# Altium schematic symbol library TIDA_00620.SchLib: 58 symbols (part 2 of 5)
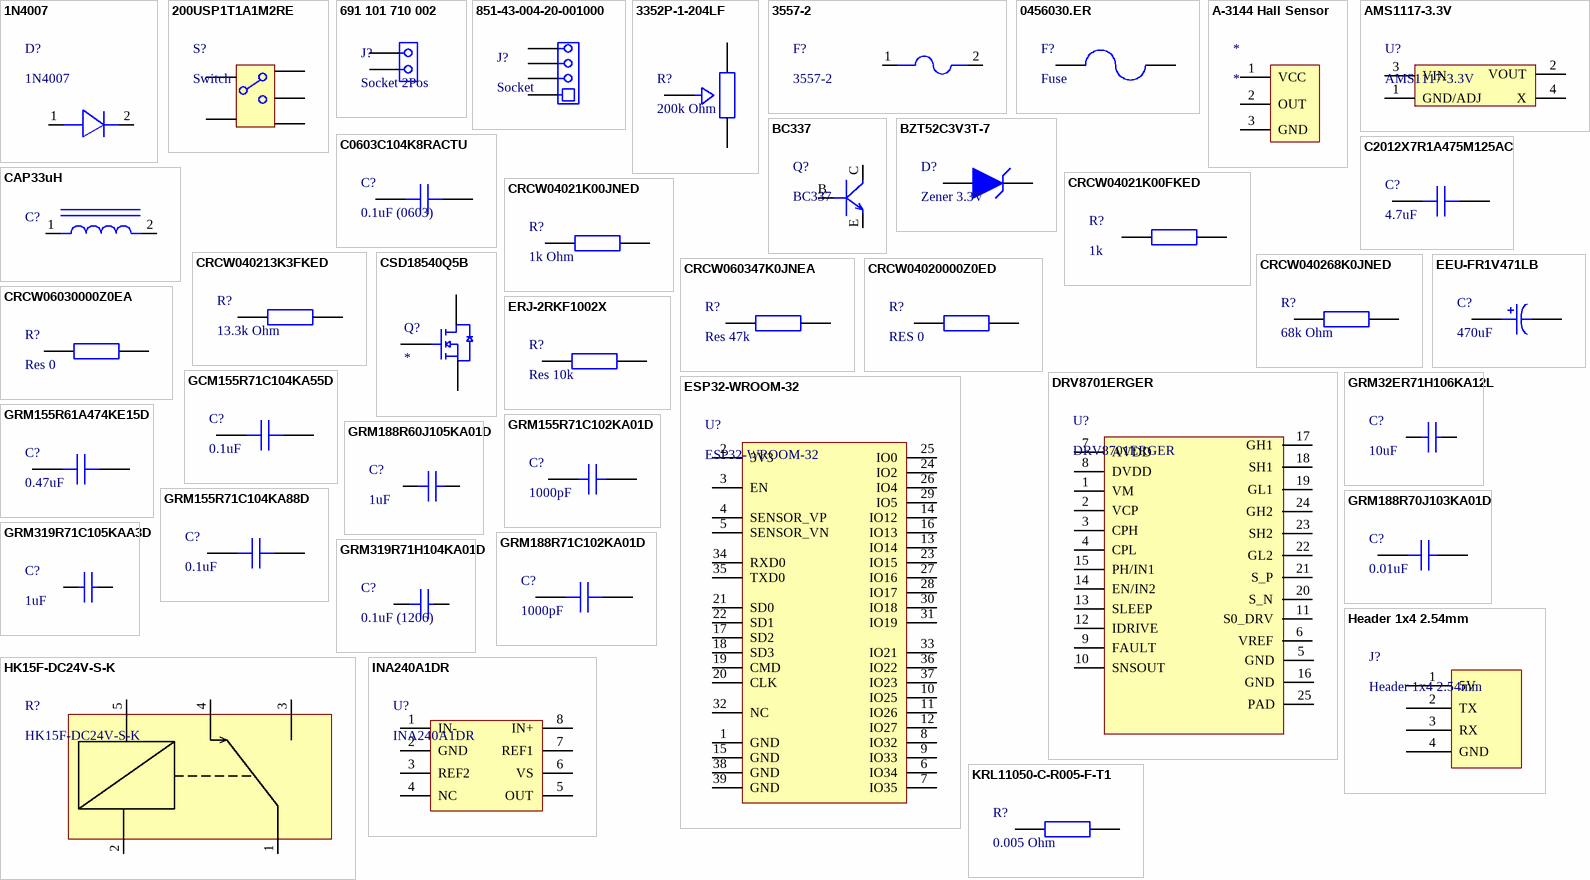
[diagram p2: symbols 1N4007 to KRL11050-C-R005-F-T1]

## C2012X7R1A475M125AC
designator C?, comment 4.7uF
10V 4.7uF X7R 卤20% 0805 Multilayer Ceramic Capacitors MLCC - SMD/SMT ROHS; Manufacturer: TDK; Manufacturer Part Number: C2012X7R1A475M125AC; Manufacturer Lifecycle Status: PRODUCTION (NOT RECOMMENDED FOR NEW DESIGN); Value: 4.7µF; Tolerance: 20%; Designed: Emre; Supplier: Future Electronics; Supplier Part Number: 7001868; RoHS: Compliant; Category: Ceramic Capacitors; Stock: 14000; Pricing: 2000=0,0339, 6000=0,0331, 10000=0,0327, 30000=0,0319, 50000=0,0312 (USD); Case/Package: 0805; Case Code (Imperial): 0805; Case Code (Metric): 2012; China RoHS: Compliant; Composition: Ceramic; Depth: 1.25mm; Dielectric: X7R; Dielectric Material: Ceramic; Height: 1.25mm; Lead Free: Lead Free; Length: 2mm; Lifecycle Status: NRND; Material: Ceramic; Max Length: 2.2mm; Max Operating Temperature: 125°C; Max Width: 1.45mm; Min Length: 1.8mm; Min Operating Temperature: -55°C; Min Width: 1.05mm; Mounting Technology: Surface Mount; Pins: 2; Number of Terminals: 2; Radiation Hardening: No; REACH SVHC: Yes; Schedule B: 8532240020, 8532240020|8532240020, 8532240020|8532240020|8532240020, 8532240020|8532240020|8532240020|8532240020; Termination: SMD/SMT; Voltage: 10V; Voltage Rating: 10V; Voltage Rating (DC): 10V; Weight: 5.499807mg; Width: 1.25mm; ComponentLink1URL: https://datasheet.octopart.com:443/C2012X7R1A475M125AC-TDK-datasheet-175423548.pdf?src-supplier=IHS; ComponentLink1Description: https://datasheet.octopart.com:443/C2012X7R1A475M125AC-TDK-datasheet-175423548.pdf?src-supplier=IHS; ComponentLink2URL: https://datasheet.octopart.com:443/C2012X7R1A475M125AC-TDK-datasheet-151546523.pdf?src-supplier=TDK; ComponentLink2Description: https://datasheet.octopart.com:443/C2012X7R1A475M125AC-TDK-datasheet-151546523.pdf?src-supplier=TDK; ComponentLink3URL: https://datasheet.octopart.com/C2012X7R1A475M125AC-TDK-datasheet-41194876.pdf; ComponentLink3Description: https://datasheet.octopart.com/C2012X7R1A475M125AC-TDK-datasheet-41194876.pdf; ComponentLink4URL: https://datasheet.octopart.com:443/C2012X7R1A475M125AC-TDK-datasheet-82475248.pdf?src-supplier=Newark; ComponentLink4Description: https://datasheet.octopart.com:443/C2012X7R1A475M125AC-TDK-datasheet-82475248.pdf?src-supplier=Newark; ComponentLink5URL: https://datasheet.octopart.com:443/C2012X7R1A475M125AC-TDK-datasheet-10978788.pdf?src-supplier=Newark; ComponentLink5Description: https://datasheet.octopart.com:443/C2012X7R1A475M125AC-TDK-datasheet-10978788.pdf?src-supplier=Newark; ComponentLink6URL: https://datasheet.octopart.com:443/C2012X7R1A475M125AC-TDK-datasheet-13376850.pdf?src-supplier=Newark; ComponentLink6Description: https://datasheet.octopart.com:443/C2012X7R1A475M125AC-TDK-datasheet-13376850.pdf?src-supplier=Newark; ComponentLink7URL: https://datasheet.octopart.com:443/C2012X7R1A475M125AC-TDK-datasheet-12509848.pdf?src-supplier=Future+Electronics; ComponentLink7Description: https://datasheet.octopart.com:443/C2012X7R1A475M125AC-TDK-datasheet-12509848.pdf?src-supplier=Future+Electronics; ComponentLink8URL: https://datasheet.octopart.com:443/C2012X7R1A475M125AC-TDK-datasheet-8852320.pdf?src-supplier=Future+Electronics; ComponentLink8Description: https://datasheet.octopart.com:443/C2012X7R1A475M125AC-TDK-datasheet-8852320.pdf?src-supplier=Future+Electronics; ComponentLink9URL: https://datasheet.octopart.com:443/C2012X7R1A475M125AC-TDK-datasheet-8359770.pdf?src-supplier=Future+Electronics; ComponentLink9Description: https://datasheet.octopart.com:443/C2012X7R1A475M125AC-TDK-datasheet-8359770.pdf?src-supplier=Future+Electronics; ComponentLink10URL: https://datasheet.octopart.com:443/C2012X7R1A475M125AC-TDK-datasheet-8324322.pdf?src-supplier=Future+Electronics; ComponentLink10Description: https://datasheet.octopart.com:443/C2012X7R1A475M125AC-TDK-datasheet-8324322.pdf?src-supplier=Future+Electronics; ComponentLink11URL: https://datasheet.octopart.com:443/C2012X7R1A475M125AC-TDK-datasheet-128946.pdf?src-supplier=Future+Electronics; ComponentLink11Description: https://datasheet.octopart.com:443/C2012X7R1A475M125AC-TDK-datasheet-128946.pdf?src-supplier=Future+Electronics
footprint CAP0805- C2012X7R1A475M (Chip Capacitor, 2-Leads, Body 2,00x1,25mm, IPC Medium Density)
pins: 1, 2

## CAP33uH
designator C?
Inductor Power Shielded Wirewound 33uH 20% 1KHz 27Q-Factor Ferrite 3A 60mOhm DCR T/R; Manufacturer: Bourns; Manufacturer Part Number: SRR1260-330M; DC Resistance (DCR): 60mΩ; Value: 33µH; Number of Circuits: 1; Q Factor: 27; Self Resonant Frequency: 9.97MHz; Shielding: Yes; Supplier: Farnell; Supplier Part Number: 2859170; RoHS: Compliant; Category: Fixed Inductors; Stock: 6737; Pricing: 1=0,97, 10=0,797, 50=0,765, 100=0,626, 200=0,579, 600=0,531 (EUR); China RoHS: Compliant; Core Material: Ferrite; Current Rating: 3A; Height: 6mm; Inductance Tolerance: 20%; Lifecycle Status: Production; Max Current Rating: 3A; Max Operating Temperature: 125°C; Min Operating Temperature: -40°C; Pins: 2; Number of Terminals: 2; Packaging: Tape & Reel; REACH SVHC: Yes; Schedule B: 8504500000, 8504500000|8504500000, 8504500000|8504500000|8504500000, 8504500000|8504500000|8504500000|8504500000; Test Frequency: 1kHz; Tolerance: 20%; Width: 12.5mm; ComponentLink1URL: https://datasheet.octopart.com:443/SRR1260-330M-Bourns-datasheet-165058512.pdf?src-supplier=IHS; ComponentLink1Description: https://datasheet.octopart.com:443/SRR1260-330M-Bourns-datasheet-165058512.pdf?src-supplier=IHS; ComponentLink2URL: https://datasheet.octopart.com:443/SRR1260-330M-Bourns-datasheet-10635436.pdf?src-supplier=Farnell; ComponentLink2Description: https://datasheet.octopart.com:443/SRR1260-330M-Bourns-datasheet-10635436.pdf?src-supplier=Farnell; ComponentLink3URL: https://datasheet.octopart.com:443/SRR1260-330M-Bourns-datasheet-104271399.pdf?src-supplier=Farnell; ComponentLink3Description: https://datasheet.octopart.com:443/SRR1260-330M-Bourns-datasheet-104271399.pdf?src-supplier=Farnell; ComponentLink4URL: https://datasheet.octopart.com:443/SRR1260-330M-Bourns-datasheet-41191777.pdf?src-supplier=Electro+Sonic; ComponentLink4Description: https://datasheet.octopart.com:443/SRR1260-330M-Bourns-datasheet-41191777.pdf?src-supplier=Electro+Sonic; ComponentLink5URL: https://datasheet.octopart.com:443/SRR1260-330M-Bourns-datasheet-154729982.pdf?src-supplier=Electro+Sonic; ComponentLink5Description: https://datasheet.octopart.com:443/SRR1260-330M-Bourns-datasheet-154729982.pdf?src-supplier=Electro+Sonic; ComponentLink6URL: https://datasheet.octopart.com:443/SRR1260-330M-Bourns-datasheet-78856879.pdf?src-supplier=element14+APAC; ComponentLink6Description: https://datasheet.octopart.com:443/SRR1260-330M-Bourns-datasheet-78856879.pdf?src-supplier=element14+APAC; ComponentLink7URL: https://datasheet.octopart.com:443/SRR1260-330M-Bourns-datasheet-531572.pdf?src-supplier=element14; ComponentLink7Description: https://datasheet.octopart.com:443/SRR1260-330M-Bourns-datasheet-531572.pdf?src-supplier=element14; ComponentLink8URL: https://datasheet.octopart.com:443/SRR1260-330M-Bourns-datasheet-95952708.pdf?src-supplier=Burklin+Elektronik; ComponentLink8Description: https://datasheet.octopart.com:443/SRR1260-330M-Bourns-datasheet-95952708.pdf?src-supplier=Burklin+Elektronik; ComponentLink9URL: https://datasheet.octopart.com:443/SRR1260-330M-Bourns-datasheet-15703909.pdf?src-supplier=RS+(Formerly+Allied+Electronics); ComponentLink9Description: https://datasheet.octopart.com:443/SRR1260-330M-Bourns-datasheet-15703909.pdf?src-supplier=RS+(Formerly+Allied+Electronics); ComponentLink10URL: http://sigma.octopart.com:80/conflict_mineral_statement/Bourns-company-36.pdf?src-supplier=Compliance+Statements; ComponentLink10Description: http://sigma.octopart.com:80/conflict_mineral_statement/Bourns-company-36.pdf?src-supplier=Compliance+Statements
footprint Cap33Uh
pins: 1, 2

## CRCW04021K00FKED
designator R?, comment 1k
Res Thick Film 0402 1K Ohm 1% 1/16W ±100ppm/°C Molded SMD Paper T/R; Manufacturer: Vishay; Manufacturer Part Number: CRCW04021K00FKED; Max Power Dissipation: 63mW; Value: 1kΩ; Voltage Rating: 50V; Supplier: Farnell; Supplier Part Number: 1469662; RoHS: Compliant; Category: Chip SMD Resistors; Stock: 8230851; Pricing: 10=0,0156, 100=0,0087, 500=0,0081, 2500=0,0074, 5000=0,0058, 10000=0,0038 (EUR); Case/Package: 0402; Case Code (Imperial): 0402; China RoHS: Non-Compliant; Composition: Thick Film; Contact Plating: Tin; Depth: 500µm; Features: Automotive AEC-Q200; Height: 350µm; Lead Free: Lead Free; Length: 1mm; Lifecycle Status: Production; Max Operating Temperature: 155°C; Military Standard: Not; Min Operating Temperature: -55°C; Mounting Technology: Surface Mount; Pins: 2; Number of Terminals: 2; Number of Terminations: 2; Packaging: Cut Tape; Power Dissipation: 63mW; Power Rating: 63mW; Radiation Hardening: No; REACH SVHC: Yes; Schedule B: 8533210045, 8533210045|8533210045, 8533210045|8533210045|8533210045, 8533210045|8533210045|8533210045|8533210045; Temperature Coefficient: 100ppm/°C; Termination: SMD/SMT; Tolerance: 1%; Voltage Rating (DC): 50V; Weight: 652.039032µg; Width: 500µm; Working Voltage: 50V; ComponentLink1URL: https://datasheet.octopart.com:443/CRCW04021K00FKED-Vishay-datasheet-175423584.pdf?src-supplier=IHS; ComponentLink1Description: https://datasheet.octopart.com:443/CRCW04021K00FKED-Vishay-datasheet-175423584.pdf?src-supplier=IHS; ComponentLink2URL: https://datasheet.octopart.com:443/CRCW04021K00FKED-Vishay-datasheet-83961561.pdf?src-supplier=Newark; ComponentLink2Description: https://datasheet.octopart.com:443/CRCW04021K00FKED-Vishay-datasheet-83961561.pdf?src-supplier=Newark; ComponentLink3URL: https://datasheet.octopart.com:443/CRCW04021K00FKED-Vishay-datasheet-11516975.pdf?src-supplier=Newark; ComponentLink3Description: https://datasheet.octopart.com:443/CRCW04021K00FKED-Vishay-datasheet-11516975.pdf?src-supplier=Newark; ComponentLink4URL: https://datasheet.octopart.com:443/CRCW04021K00FKED-Vishay-datasheet-183883877.pdf?src-supplier=Newark; ComponentLink4Description: https://datasheet.octopart.com:443/CRCW04021K00FKED-Vishay-datasheet-183883877.pdf?src-supplier=Newark; ComponentLink5URL: https://datasheet.octopart.com:443/CRCW04021K00FKED-Vishay-datasheet-41302739.pdf?src-supplier=Newark; ComponentLink5Description: https://datasheet.octopart.com:443/CRCW04021K00FKED-Vishay-datasheet-41302739.pdf?src-supplier=Newark; ComponentLink6URL: https://datasheet.octopart.com:443/CRCW04021K00FKED-Vishay-datasheet-66077789.pdf?src-supplier=element14+APAC; ComponentLink6Description: https://datasheet.octopart.com:443/CRCW04021K00FKED-Vishay-datasheet-66077789.pdf?src-supplier=element14+APAC; ComponentLink7URL: https://datasheet.octopart.com:443/CRCW04021K00FKED-Vishay-datasheet-62317933.pdf?src-supplier=element14+APAC; ComponentLink7Description: https://datasheet.octopart.com:443/CRCW04021K00FKED-Vishay-datasheet-62317933.pdf?src-supplier=element14+APAC; ComponentLink8URL: https://datasheet.octopart.com:443/CRCW04021K00FKED-Vishay-datasheet-14722531.pdf?src-supplier=element14+APAC; ComponentLink8Description: https://datasheet.octopart.com:443/CRCW04021K00FKED-Vishay-datasheet-14722531.pdf?src-supplier=element14+APAC; ComponentLink9URL: https://datasheet.octopart.com:443/CRCW04021K00FKED.-Vishay-datasheet-78776209.pdf?src-supplier=element14+APAC; ComponentLink9Description: https://datasheet.octopart.com:443/CRCW04021K00FKED.-Vishay-datasheet-78776209.pdf?src-supplier=element14+APAC; ComponentLink10URL: https://datasheet.octopart.com:443/CRCW04021K00FKED-Vishay-datasheet-5300368.pdf?src-supplier=Future+Electronics; ComponentLink10Description: https://datasheet.octopart.com:443/CRCW04021K00FKED-Vishay-datasheet-5300368.pdf?src-supplier=Future+Electronics; ComponentLink11URL: https://datasheet.octopart.com:443/CRCW04021K00FKED-Vishay-datasheet-62316122.pdf?src-supplier=Future+Electronics; ComponentLink11Description: https://datasheet.octopart.com:443/CRCW04021K00FKED-Vishay-datasheet-62316122.pdf?src-supplier=Future+Electronics; ComponentLink12URL: https://datasheet.octopart.com:443/CRCW04021K00FKED-Vishay-datasheet-5306405.pdf?src-supplier=RS+(Formerly+Allied+Electronics); ComponentLink12Description: https://datasheet.octopart.com:443/CRCW04021K00FKED-Vishay-datasheet-5306405.pdf?src-supplier=RS+(Formerly+Allied+Electronics); ComponentLink13URL: https://datasheet.octopart.com:443/CRCW04021K00FKED-Vishay-Dale-datasheet-47688880.pdf?src-supplier=RS+(Formerly+Allied+Electronics); ComponentLink13Description: https://datasheet.octopart.com:443/CRCW04021K00FKED-Vishay-Dale-datasheet-47688880.pdf?src-supplier=RS+(Formerly+Allied+Electronics); ComponentLink14URL: https://datasheet.octopart.com:443/CRCW04021K00FKED-Vishay-datasheet-12001583.pdf?src-supplier=RS+(Formerly+Allied+Electronics); ComponentLink14Description: https://datasheet.octopart.com:443/CRCW04021K00FKED-Vishay-datasheet-12001583.pdf?src-supplier=RS+(Formerly+Allied+Electronics); ComponentLink15URL: https://datasheet.octopart.com:443/CRCW04021K00FKED-Vishay-datasheet-62332075.pdf?src-supplier=TME; ComponentLink15Description: https://datasheet.octopart.com:443/CRCW04021K00FKED-Vishay-datasheet-62332075.pdf?src-supplier=TME; ComponentLink16URL: https://datasheet.octopart.com:443/CRCW04021K00FKED-Vishay-datasheet-13242068.pdf?src-supplier=Farnell; ComponentLink16Description: https://datasheet.octopart.com:443/CRCW04021K00FKED-Vishay-datasheet-13242068.pdf?src-supplier=Farnell; ComponentLink17URL: https://datasheet.octopart.com:443/CRCW04021K00FKED-Vishay-datasheet-13195083.pdf?src-supplier=Farnell; ComponentLink17Description: https://datasheet.octopart.com:443/CRCW04021K00FKED-Vishay-datasheet-13195083.pdf?src-supplier=Farnell; ComponentLink18URL: https://datasheet.octopart.com:443/CRCW04021K00FKED-Vishay-datasheet-13034211.pdf?src-supplier=Farnell; ComponentLink18Description: https://datasheet.octopart.com:443/CRCW04021K00FKED-Vishay-datasheet-13034211.pdf?src-supplier=Farnell; ComponentLink19URL: https://datasheet.octopart.com:443/CRCW04021K00FKED-Vishay-datasheet-12600034.pdf?src-supplier=Farnell; ComponentLink19Description: https://datasheet.octopart.com:443/CRCW04021K00FKED-Vishay-datasheet-12600034.pdf?src-supplier=Farnell; ComponentLink20URL: https://datasheet.octopart.com:443/CRCW04021K00FKED-Vishay-datasheet-12532161.pdf?src-supplier=Farnell; ComponentLink20Description: https://datasheet.octopart.com:443/CRCW04021K00FKED-Vishay-datasheet-12532161.pdf?src-supplier=Farnell; ComponentLink21URL: https://datasheet.octopart.com:443/CRCW04021K00FKED-Vishay-datasheet-12517896.pdf?src-supplier=Farnell; ComponentLink21Description: https://datasheet.octopart.com:443/CRCW04021K00FKED-Vishay-datasheet-12517896.pdf?src-supplier=Farnell; ComponentLink22URL: https://datasheet.octopart.com:443/CRCW04021K00FKED-Vishay-datasheet-12509762.pdf?src-supplier=Farnell; ComponentLink22Description: https://datasheet.octopart.com:443/CRCW04021K00FKED-Vishay-datasheet-12509762.pdf?src-supplier=Farnell; ComponentLink23URL: https://datasheet.octopart.com:443/CRCW04021K00FKED-Vishay-datasheet-10322335.pdf?src-supplier=Farnell; ComponentLink23Description: https://datasheet.octopart.com:443/CRCW04021K00FKED-Vishay-datasheet-10322335.pdf?src-supplier=Farnell; ComponentLink24URL: https://datasheet.octopart.com:443/CRCW04021K00FKED-Vishay-datasheet-8788789.pdf?src-supplier=Farnell; ComponentLink24Description: https://datasheet.octopart.com:443/CRCW04021K00FKED-Vishay-datasheet-8788789.pdf?src-supplier=Farnell; ComponentLink25URL: https://datasheet.octopart.com:443/CRCW04021K00FKED-Vishay-datasheet-8361388.pdf?src-supplier=Farnell; ComponentLink25Description: https://datasheet.octopart.com:443/CRCW04021K00FKED-Vishay-datasheet-8361388.pdf?src-supplier=Farnell; ComponentLink26URL: https://datasheet.octopart.com:443/CRCW04021K00FKED-Vishay-datasheet-546287.pdf?src-supplier=Farnell; ComponentLink26Description: https://datasheet.octopart.com:443/CRCW04021K00FKED-Vishay-datasheet-546287.pdf?src-supplier=Farnell; ComponentLink27URL: https://datasheet.octopart.com:443/CRCW04021K00FKED-Vishay-datasheet-11540273.pdf?src-supplier=Arrow+Electronics; ComponentLink27Description: https://datasheet.octopart.com:443/CRCW04021K00FKED-Vishay-datasheet-11540273.pdf?src-supplier=Arrow+Electronics; ComponentLink28URL: https://datasheet.octopart.com:443/CRCW04021K00FKED-Vishay-datasheet-8445837.pdf?src-supplier=element14; ComponentLink28Description: https://datasheet.octopart.com:443/CRCW04021K00FKED-Vishay-datasheet-8445837.pdf?src-supplier=element14; ComponentLink29URL: https://datasheet.octopart.com:443/CRCW04021K00FKED-Vishay-datasheet-5377255.pdf?src-supplier=Garrett; ComponentLink29Description: https://datasheet.octopart.com:443/CRCW04021K00FKED-Vishay-datasheet-5377255.pdf?src-supplier=Garrett; ComponentLink30URL: https://datasheet.octopart.com:443/CRCW04021K00FKED-Vishay-datasheet-148188.pdf?src-supplier=Garrett; ComponentLink30Description: https://datasheet.octopart.com:443/CRCW04021K00FKED-Vishay-datasheet-148188.pdf?src-supplier=Garrett; ComponentLink31URL: https://datasheet.octopart.com:443/CRCW04021K00FKED-Vishay-datasheet-42367.pdf?src-supplier=Garrett; ComponentLink31Description: https://datasheet.octopart.com:443/CRCW04021K00FKED-Vishay-datasheet-42367.pdf?src-supplier=Garrett; ComponentLink32URL: http://sigma.octopart.com:80/rohs_statement/Vishay-company-15.pdf?src-supplier=Compliance+Statements; ComponentLink32Description: http://sigma.octopart.com:80/rohs_statement/Vishay-company-15.pdf?src-supplier=Compliance+Statements
footprint RES0402 (Chip Resistor, 2-Leads, Body 1,00x0,50mm, IPC Medium Density  CRCW040213K3FKED, CRCW04021K00JNED, CRCW04021K00FKED)
pins: 1, 2

## CRCW04021K00JNED
designator R?, comment 1k Ohm
Res Thick Film 0402 1K Ohm 5% 1/16W ±200ppm/°C Molded SMD SMD Paper T/R; Manufacturer: Vishay; Manufacturer Part Number: CRCW04021K00JNED; Max Power Dissipation: 63mW; Value: 1kΩ; Voltage Rating: 50V; Supplier: Farnell; Supplier Part Number: 2616727; RoHS: Compliant; Category: Chip SMD Resistors; Stock: 22680; Pricing: 10=0,0169, 100=0,0122, 500=0,0099, 2500=0,0089, 5000=0,0082 (EUR); Case/Package: 0402; Case Code (Imperial): 0402; China RoHS: Non-Compliant; Composition: Thick Film; Contact Plating: Tin; Depth: 500µm; Features: Automotive AEC-Q200; Height: 350µm; Lead Free: Lead Free; Length: 1mm; Lifecycle Status: Production; Max Operating Temperature: 155°C; Military Standard: Not; Min Operating Temperature: -55°C; Mounting Technology: Surface Mount; Pins: 2; Number of Terminals: 2; Number of Terminations: 2; Packaging: Cut Tape; Power Dissipation: 63mW; Power Rating: 63mW; Radiation Hardening: No; REACH SVHC: Yes; Schedule B: 8533210045, 8533210045|8533210045|8533210045|8533210045|8533210045|8533210045|8533210045|8533210045|8533210045|8533210045|8533210045|8533210045|8533210045|8533210045|8533210045|8533210045|8533210045|8533210045|8533210045|8533210045|8533210045|8533210045|8533210045|85; Temperature Coefficient: 200ppm/°C; Termination: SMD/SMT; Tolerance: 5%; Voltage Rating (DC): 50V; Weight: 652.039032µg; Width: 500µm; Working Voltage: 50V; ComponentLink1URL: https://datasheet.octopart.com:443/CRCW04021K00JNED-Vishay-datasheet-175423584.pdf?src-supplier=IHS; ComponentLink1Description: https://datasheet.octopart.com:443/CRCW04021K00JNED-Vishay-datasheet-175423584.pdf?src-supplier=IHS; ComponentLink2URL: https://datasheet.octopart.com:443/CRCW04021K00JNED-Vishay-datasheet-83961561.pdf?src-supplier=Newark; ComponentLink2Description: https://datasheet.octopart.com:443/CRCW04021K00JNED-Vishay-datasheet-83961561.pdf?src-supplier=Newark; ComponentLink3URL: https://datasheet.octopart.com:443/CRCW04021K00JNED-Vishay-datasheet-66077789.pdf?src-supplier=Newark; ComponentLink3Description: https://datasheet.octopart.com:443/CRCW04021K00JNED-Vishay-datasheet-66077789.pdf?src-supplier=Newark; ComponentLink4URL: https://datasheet.octopart.com:443/CRCW04021K00JNED-Vishay-datasheet-41302739.pdf?src-supplier=Newark; ComponentLink4Description: https://datasheet.octopart.com:443/CRCW04021K00JNED-Vishay-datasheet-41302739.pdf?src-supplier=Newark; ComponentLink5URL: https://datasheet.octopart.com:443/CRCW04021K00JNED-Vishay-datasheet-21226360.pdf?src-supplier=Newark; ComponentLink5Description: https://datasheet.octopart.com:443/CRCW04021K00JNED-Vishay-datasheet-21226360.pdf?src-supplier=Newark; ComponentLink6URL: https://datasheet.octopart.com:443/CRCW04021K00JNED-Vishay-datasheet-62317933.pdf?src-supplier=element14+APAC; ComponentLink6Description: https://datasheet.octopart.com:443/CRCW04021K00JNED-Vishay-datasheet-62317933.pdf?src-supplier=element14+APAC; ComponentLink7URL: https://datasheet.octopart.com:443/CRCW04021K00JNED-Vishay-datasheet-66077788.pdf?src-supplier=element14+APAC; ComponentLink7Description: https://datasheet.octopart.com:443/CRCW04021K00JNED-Vishay-datasheet-66077788.pdf?src-supplier=element14+APAC; ComponentLink8URL: https://datasheet.octopart.com:443/CRCW04021K00JNED-Vishay-datasheet-31669108.pdf?src-supplier=Farnell; ComponentLink8Description: https://datasheet.octopart.com:443/CRCW04021K00JNED-Vishay-datasheet-31669108.pdf?src-supplier=Farnell; ComponentLink9URL: https://datasheet.octopart.com:443/CRCW04021K00JNED-Vishay-datasheet-62316122.pdf?src-supplier=Future+Electronics; ComponentLink9Description: https://datasheet.octopart.com:443/CRCW04021K00JNED-Vishay-datasheet-62316122.pdf?src-supplier=Future+Electronics; ComponentLink10URL: https://datasheet.octopart.com:443/CRCW04021K00JNED-Vishay-datasheet-5300368.pdf?src-supplier=Future+Electronics; ComponentLink10Description: https://datasheet.octopart.com:443/CRCW04021K00JNED-Vishay-datasheet-5300368.pdf?src-supplier=Future+Electronics; ComponentLink11URL: https://datasheet.octopart.com:443/CRCW04021K00JNED-Vishay-Dale-datasheet-47688880.pdf?src-supplier=RS+(Formerly+Allied+Electronics); ComponentLink11Description: https://datasheet.octopart.com:443/CRCW04021K00JNED-Vishay-Dale-datasheet-47688880.pdf?src-supplier=RS+(Formerly+Allied+Electronics); ComponentLink12URL: https://datasheet.octopart.com:443/CRCW04021K00JNED-Vishay-datasheet-12001583.pdf?src-supplier=RS+(Formerly+Allied+Electronics); ComponentLink12Description: https://datasheet.octopart.com:443/CRCW04021K00JNED-Vishay-datasheet-12001583.pdf?src-supplier=RS+(Formerly+Allied+Electronics); ComponentLink13URL: https://datasheet.octopart.com:443/CRCW04021K00JNED-Vishay-datasheet-5306405.pdf?src-supplier=RS+(Formerly+Allied+Electronics); ComponentLink13Description: https://datasheet.octopart.com:443/CRCW04021K00JNED-Vishay-datasheet-5306405.pdf?src-supplier=RS+(Formerly+Allied+Electronics); ComponentLink14URL: https://datasheet.octopart.com/D-CRCW-e3-Standard-Thick-Film-Chip-Resistors-Vishay-datasheet-family-64.pdf; ComponentLink14Description: https://datasheet.octopart.com/D-CRCW-e3-Standard-Thick-Film-Chip-Resistors-Vishay-datasheet-family-64.pdf; ComponentLink15URL: https://datasheet.octopart.com:443/CRCW04021K00JNED-Vishay-datasheet-11540273.pdf?src-supplier=Arrow+Electronics; ComponentLink15Description: https://datasheet.octopart.com:443/CRCW04021K00JNED-Vishay-datasheet-11540273.pdf?src-supplier=Arrow+Electronics; ComponentLink16URL: https://datasheet.octopart.com:443/CRCW04021K00JNED-Vishay-datasheet-8699723.pdf?src-supplier=element14; ComponentLink16Description: https://datasheet.octopart.com:443/CRCW04021K00JNED-Vishay-datasheet-8699723.pdf?src-supplier=element14; ComponentLink17URL: https://datasheet.octopart.com:443/CRCW04021K00JNED-Vishay-datasheet-5377255.pdf?src-supplier=Garrett; ComponentLink17Description: https://datasheet.octopart.com:443/CRCW04021K00JNED-Vishay-datasheet-5377255.pdf?src-supplier=Garrett; ComponentLink18URL: https://datasheet.octopart.com:443/CRCW04021K00JNED-Vishay-datasheet-148188.pdf?src-supplier=Garrett; ComponentLink18Description: https://datasheet.octopart.com:443/CRCW04021K00JNED-Vishay-datasheet-148188.pdf?src-supplier=Garrett; ComponentLink19URL: https://datasheet.octopart.com:443/CRCW04021K00JNED-Vishay-datasheet-42367.pdf?src-supplier=Garrett; ComponentLink19Description: https://datasheet.octopart.com:443/CRCW04021K00JNED-Vishay-datasheet-42367.pdf?src-supplier=Garrett; ComponentLink20URL: http://sigma.octopart.com:80/rohs_certificate/D-CRCW-e3-Standard-Thick-Film-Chip-Resistors-Vishay-family-102.pdf?src-supplier=Compliance+Statements; ComponentLink20Description: http://sigma.octopart.com:80/rohs_certificate/D-CRCW-e3-Standard-Thick-Film-Chip-Resistors-Vishay-family-102.pdf?src-supplier=Compliance+Statements
footprint RES0402 (Chip Resistor, 2-Leads, Body 1,00x0,50mm, IPC Medium Density  CRCW040213K3FKED, CRCW04021K00JNED, CRCW04021K00FKED)
pins: 1, 2

## CRCW040213K3FKED
designator R?, comment 13.3k Ohm
CRCW FIXED RESISTOR 0402 (1005Metric) Chip Resistor ±1% ±100ppm/C 13.3kOhm 0.063W 1/16W; Manufacturer: Vishay; Manufacturer Part Number: CRCW040213K3FKED; Max Power Dissipation: 63mW; Value: 13.3kΩ; Temperature Coefficient: 100ppm/°C; Voltage Rating: 50V; Supplier: Farnell; Supplier Part Number: 4139115; RoHS: Compliant; Category: Chip SMD Resistors; Stock: 6850; Pricing: 10=0,0192, 100=0,0139, 500=0,0112, 2500=0,0093, 5000=0,0091 (EUR); Case/Package: 0402; Case Code (Imperial): 0402; China RoHS: Non-Compliant; Composition: Thick Film; Contact Plating: Tin; Depth: 500µm; Features: Automotive AEC-Q200; Height: 350µm; Lead Free: Lead Free; Length: 1mm; Lifecycle Status: Production; Max Operating Temperature: 155°C; Military Standard: Not; Min Operating Temperature: -55°C; Mounting Technology: Surface Mount; Pins: 2; Number of Terminals: 2; Number of Terminations: 2; Power Dissipation: 63mW; Power Rating: 63mW; Radiation Hardening: No; REACH SVHC: Yes; Schedule B: 8533210045, 8533210045|8533210045|8533210045|8533210045|8533210045|8533210045|8533210045|8533210045|8533210045|8533210045|8533210045|8533210045|8533210045|8533210045|8533210045|8533210045|8533210045|8533210045|8533210045|8533210045|8533210045|8533210045|8533210045|85; Termination: SMD/SMT; Tolerance: 1%; Voltage Rating (DC): 50V; Weight: 652.039032µg; Width: 500µm; Working Voltage: 50V; ComponentLink1URL: https://datasheet.octopart.com:443/CRCW040213K3FKED-Vishay-datasheet-175423584.pdf?src-supplier=IHS; ComponentLink1Description: https://datasheet.octopart.com:443/CRCW040213K3FKED-Vishay-datasheet-175423584.pdf?src-supplier=IHS; ComponentLink2URL: https://datasheet.octopart.com:443/CRCW040213K3FKED-Vishay-datasheet-190005712.pdf?src-supplier=TME; ComponentLink2Description: https://datasheet.octopart.com:443/CRCW040213K3FKED-Vishay-datasheet-190005712.pdf?src-supplier=TME; ComponentLink3URL: https://datasheet.octopart.com:443/CRCW040213K3FKED-Vishay-datasheet-83961561.pdf?src-supplier=Farnell; ComponentLink3Description: https://datasheet.octopart.com:443/CRCW040213K3FKED-Vishay-datasheet-83961561.pdf?src-supplier=Farnell; ComponentLink4URL: https://datasheet.octopart.com:443/CRCW040213K3FKED-Vishay-datasheet-62317933.pdf?src-supplier=Farnell; ComponentLink4Description: https://datasheet.octopart.com:443/CRCW040213K3FKED-Vishay-datasheet-62317933.pdf?src-supplier=Farnell; ComponentLink5URL: https://datasheet.octopart.com:443/CRCW040213K3FKED-Vishay-datasheet-14722531.pdf?src-supplier=Farnell; ComponentLink5Description: https://datasheet.octopart.com:443/CRCW040213K3FKED-Vishay-datasheet-14722531.pdf?src-supplier=Farnell; ComponentLink6URL: https://datasheet.octopart.com:443/CRCW040213K3FKED-Vishay-datasheet-5300368.pdf?src-supplier=Farnell; ComponentLink6Description: https://datasheet.octopart.com:443/CRCW040213K3FKED-Vishay-datasheet-5300368.pdf?src-supplier=Farnell; ComponentLink7URL: https://datasheet.octopart.com:443/CRCW040213K3FKED-Vishay-datasheet-66077789.pdf?src-supplier=Newark; ComponentLink7Description: https://datasheet.octopart.com:443/CRCW040213K3FKED-Vishay-datasheet-66077789.pdf?src-supplier=Newark; ComponentLink8URL: https://datasheet.octopart.com:443/CRCW040213K3FKED-Vishay-datasheet-11516975.pdf?src-supplier=Newark; ComponentLink8Description: https://datasheet.octopart.com:443/CRCW040213K3FKED-Vishay-datasheet-11516975.pdf?src-supplier=Newark; ComponentLink9URL: https://datasheet.octopart.com:443/CRCW040213K3FKED-Vishay-datasheet-41302739.pdf?src-supplier=Newark; ComponentLink9Description: https://datasheet.octopart.com:443/CRCW040213K3FKED-Vishay-datasheet-41302739.pdf?src-supplier=Newark; ComponentLink10URL: https://datasheet.octopart.com:443/CRCW040213K3FKED-Vishay-datasheet-33013972.pdf?src-supplier=Newark; ComponentLink10Description: https://datasheet.octopart.com:443/CRCW040213K3FKED-Vishay-datasheet-33013972.pdf?src-supplier=Newark; ComponentLink11URL: https://datasheet.octopart.com:443/CRCW040213K3FKED-Vishay-datasheet-21226360.pdf?src-supplier=Newark; ComponentLink11Description: https://datasheet.octopart.com:443/CRCW040213K3FKED-Vishay-datasheet-21226360.pdf?src-supplier=Newark; ComponentLink12URL: https://datasheet.octopart.com:443/CRCW040213K3FKED-Vishay-datasheet-10882403.pdf?src-supplier=element14+APAC; ComponentLink12Description: https://datasheet.octopart.com:443/CRCW040213K3FKED-Vishay-datasheet-10882403.pdf?src-supplier=element14+APAC; ComponentLink13URL: https://datasheet.octopart.com:443/CRCW040213K3FKED-Vishay-datasheet-137113250.pdf?src-supplier=X-ON; ComponentLink13Description: https://datasheet.octopart.com:443/CRCW040213K3FKED-Vishay-datasheet-137113250.pdf?src-supplier=X-ON; ComponentLink14URL: https://datasheet.octopart.com:443/CRCW040213K3FKED-Vishay-datasheet-62316122.pdf?src-supplier=Future+Electronics; ComponentLink14Description: https://datasheet.octopart.com:443/CRCW040213K3FKED-Vishay-datasheet-62316122.pdf?src-supplier=Future+Electronics; ComponentLink15URL: https://datasheet.octopart.com:443/CRCW040213K3FKED-Vishay-datasheet-12519820.pdf?src-supplier=Future+Electronics; ComponentLink15Description: https://datasheet.octopart.com:443/CRCW040213K3FKED-Vishay-datasheet-12519820.pdf?src-supplier=Future+Electronics; ComponentLink16URL: https://datasheet.octopart.com:443/CRCW040213K3FKED-Vishay-Dale-datasheet-47688880.pdf?src-supplier=RS+(Formerly+Allied+Electronics); ComponentLink16Description: https://datasheet.octopart.com:443/CRCW040213K3FKED-Vishay-Dale-datasheet-47688880.pdf?src-supplier=RS+(Formerly+Allied+Electronics); ComponentLink17URL: https://datasheet.octopart.com:443/CRCW040213K3FKED-Vishay-datasheet-12001583.pdf?src-supplier=RS+(Formerly+Allied+Electronics); ComponentLink17Description: https://datasheet.octopart.com:443/CRCW040213K3FKED-Vishay-datasheet-12001583.pdf?src-supplier=RS+(Formerly+Allied+Electronics); ComponentLink18URL: https://datasheet.octopart.com:443/CRCW040213K3FKED-Vishay-datasheet-5306405.pdf?src-supplier=RS+(Formerly+Allied+Electronics); ComponentLink18Description: https://datasheet.octopart.com:443/CRCW040213K3FKED-Vishay-datasheet-5306405.pdf?src-supplier=RS+(Formerly+Allied+Electronics); ComponentLink19URL: https://datasheet.octopart.com:443/CRCW040213K3FKED-Vishay-datasheet-11540273.pdf?src-supplier=Arrow+Electronics; ComponentLink19Description: https://datasheet.octopart.com:443/CRCW040213K3FKED-Vishay-datasheet-11540273.pdf?src-supplier=Arrow+Electronics; ComponentLink20URL: https://datasheet.octopart.com:443/CRCW040213K3FKED-Vishay-datasheet-8445837.pdf?src-supplier=element14; ComponentLink20Description: https://datasheet.octopart.com:443/CRCW040213K3FKED-Vishay-datasheet-8445837.pdf?src-supplier=element14; ComponentLink21URL: https://datasheet.octopart.com:443/CRCW040213K3FKED-Vishay-datasheet-5377255.pdf?src-supplier=Garrett; ComponentLink21Description: https://datasheet.octopart.com:443/CRCW040213K3FKED-Vishay-datasheet-5377255.pdf?src-supplier=Garrett; ComponentLink22URL: https://datasheet.octopart.com:443/CRCW040213K3FKED-Vishay-datasheet-148188.pdf?src-supplier=Garrett; ComponentLink22Description: https://datasheet.octopart.com:443/CRCW040213K3FKED-Vishay-datasheet-148188.pdf?src-supplier=Garrett; ComponentLink23URL: https://datasheet.octopart.com:443/CRCW040213K3FKED-Vishay-datasheet-42367.pdf?src-supplier=Garrett; ComponentLink23Description: https://datasheet.octopart.com:443/CRCW040213K3FKED-Vishay-datasheet-42367.pdf?src-supplier=Garrett; ComponentLink24URL: http://sigma.octopart.com:80/rohs_statement/Vishay-company-15.pdf?src-supplier=Compliance+Statements; ComponentLink24Description: http://sigma.octopart.com:80/rohs_statement/Vishay-company-15.pdf?src-supplier=Compliance+Statements
footprint RES0402 (Chip Resistor, 2-Leads, Body 1,00x0,50mm, IPC Medium Density  CRCW040213K3FKED, CRCW04021K00JNED, CRCW04021K00FKED)
pins: 1, 2

## CRCW040268K0JNED
designator R?, comment 68k Ohm
Res Thick Film 0402 68K Ohm 5% 0.063W(1/16W) ±200ppm/C Pad SMD T/R Automotive AEC-Q200; Manufacturer: Vishay; Manufacturer Part Number: CRCW040268K0JNED; Max Power Dissipation: 63mW; Value: 68kΩ; Temperature Coefficient: 200ppm/°C; Voltage Rating: 50V; Supplier: Avnet; Supplier Part Number: CRCW040268K0JNED; RoHS: Compliant; Category: Chip SMD Resistors; Stock: 200000; Pricing: 10000=0,00189, 20000=0,00185, 40000=0,00184, 60000=0,00183, 80000=0,00182 (USD); Case/Package: 0402; Case Code (Imperial): 0402; China RoHS: Non-Compliant; Composition: Thick Film; Contact Plating: Tin; Depth: 500µm; Features: Automotive AEC-Q200; Height: 350µm; Lead Free: Lead Free; Length: 1mm; Lifecycle Status: Production; Max Operating Temperature: 155°C; Military Standard: Not; Min Operating Temperature: -55°C; Mounting Technology: Surface Mount; Pins: 2; Number of Terminals: 2; Number of Terminations: 2; Packaging: Cut Tape; Power Dissipation: 63mW; Power Rating: 63mW; Radiation Hardening: No; REACH SVHC: Yes; Schedule B: 8533210045, 8533210045|8533210045, 8533210045|8533210045|8533210045, 8533210045|8533210045|8533210045|8533210045; Termination: SMD/SMT; Tolerance: 5%; Voltage Rating (DC): 50V; Weight: 652.039032µg; Width: 500µm; Working Voltage: 50V; ComponentLink1URL: https://datasheet.octopart.com:443/CRCW040268K0JNED-Vishay-datasheet-175423584.pdf?src-supplier=IHS; ComponentLink1Description: https://datasheet.octopart.com:443/CRCW040268K0JNED-Vishay-datasheet-175423584.pdf?src-supplier=IHS; ComponentLink2URL: https://datasheet.octopart.com:443/CRCW040268K0JNED-Vishay-datasheet-190005712.pdf?src-supplier=TME; ComponentLink2Description: https://datasheet.octopart.com:443/CRCW040268K0JNED-Vishay-datasheet-190005712.pdf?src-supplier=TME; ComponentLink3URL: https://datasheet.octopart.com:443/CRCW040268K0JNED-Vishay-datasheet-66077789.pdf?src-supplier=Farnell; ComponentLink3Description: https://datasheet.octopart.com:443/CRCW040268K0JNED-Vishay-datasheet-66077789.pdf?src-supplier=Farnell; ComponentLink4URL: https://datasheet.octopart.com:443/CRCW040268K0JNED-Vishay-datasheet-31669108.pdf?src-supplier=Farnell; ComponentLink4Description: https://datasheet.octopart.com:443/CRCW040268K0JNED-Vishay-datasheet-31669108.pdf?src-supplier=Farnell; ComponentLink5URL: https://datasheet.octopart.com:443/CRCW040268K0JNED-Vishay-datasheet-62317933.pdf?src-supplier=element14+APAC; ComponentLink5Description: https://datasheet.octopart.com:443/CRCW040268K0JNED-Vishay-datasheet-62317933.pdf?src-supplier=element14+APAC; ComponentLink6URL: https://datasheet.octopart.com:443/CRCW040268K0JNED-Vishay-datasheet-159614168.pdf?src-supplier=Newark; ComponentLink6Description: https://datasheet.octopart.com:443/CRCW040268K0JNED-Vishay-datasheet-159614168.pdf?src-supplier=Newark; ComponentLink7URL: https://datasheet.octopart.com:443/CRCW040268K0JNED-Vishay-datasheet-41302739.pdf?src-supplier=Newark; ComponentLink7Description: https://datasheet.octopart.com:443/CRCW040268K0JNED-Vishay-datasheet-41302739.pdf?src-supplier=Newark; ComponentLink8URL: https://datasheet.octopart.com:443/CRCW040268K0JNED-Vishay-datasheet-62316122.pdf?src-supplier=Future+Electronics; ComponentLink8Description: https://datasheet.octopart.com:443/CRCW040268K0JNED-Vishay-datasheet-62316122.pdf?src-supplier=Future+Electronics; ComponentLink9URL: https://datasheet.octopart.com:443/CRCW040268K0JNED-Vishay-datasheet-12509741.pdf?src-supplier=Future+Electronics; ComponentLink9Description: https://datasheet.octopart.com:443/CRCW040268K0JNED-Vishay-datasheet-12509741.pdf?src-supplier=Future+Electronics; ComponentLink10URL: https://datasheet.octopart.com:443/CRCW040268K0JNED-Vishay-datasheet-8445837.pdf?src-supplier=element14; ComponentLink10Description: https://datasheet.octopart.com:443/CRCW040268K0JNED-Vishay-datasheet-8445837.pdf?src-supplier=element14; ComponentLink11URL: https://datasheet.octopart.com:443/CRCW040268K0JNED-Vishay-datasheet-5377255.pdf?src-supplier=Garrett; ComponentLink11Description: https://datasheet.octopart.com:443/CRCW040268K0JNED-Vishay-datasheet-5377255.pdf?src-supplier=Garrett; ComponentLink12URL: https://datasheet.octopart.com:443/CRCW040268K0JNED-Vishay-datasheet-148188.pdf?src-supplier=Garrett; ComponentLink12Description: https://datasheet.octopart.com:443/CRCW040268K0JNED-Vishay-datasheet-148188.pdf?src-supplier=Garrett; ComponentLink13URL: https://datasheet.octopart.com:443/CRCW040268K0JNED-Vishay-datasheet-42367.pdf?src-supplier=Garrett; ComponentLink13Description: https://datasheet.octopart.com:443/CRCW040268K0JNED-Vishay-datasheet-42367.pdf?src-supplier=Garrett; ComponentLink14URL: http://sigma.octopart.com:80/rohs_statement/Vishay-company-15.pdf?src-supplier=Compliance+Statements; ComponentLink14Description: http://sigma.octopart.com:80/rohs_statement/Vishay-company-15.pdf?src-supplier=Compliance+Statements
footprint RES0402 (Chip Resistor, 2-Leads, Body 1,00x0,50mm, IPC Medium Density  CRCW040213K3FKED, CRCW04021K00JNED, CRCW04021K00FKED)
pins: 1, 2

## CRCW060347K0JNEA
designator R?, comment Res 47k
Res Thick Film 0603 47K Ohm 5% 1/10W ±200ppm/°C Molded SMD SMD Paper T/R; Manufacturer: Vishay; Manufacturer Part Number: CRCW060347K0JNEA; Max Power Dissipation: 100mW; Value: 47kΩ; Voltage Rating: 75V; Supplier: Farnell; Supplier Part Number: 1652881; RoHS: Compliant; Category: Chip SMD Resistors; Stock: 354763; Pricing: 10=0,0147, 100=0,0095, 500=0,0084, 1000=0,0072, 2500=0,0054, 5000=0,0036 (EUR); Case/Package: 0603; Case Code (Imperial): 0603; China RoHS: Non-Compliant; Composition: Thick Film; Contact Plating: Tin; Depth: 850µm; Features: Automotive AEC-Q200; Height: 450µm; Lead Free: Lead Free; Length: 1.55mm; Lifecycle Status: Production; Max Operating Temperature: 155°C; Military Standard: Not; Min Operating Temperature: -55°C; Mounting Technology: Surface Mount; Pins: 2; Number of Terminals: 2; Number of Terminations: 2; Packaging: Cut Tape; Power Dissipation: 100mW; Power Rating: 100mW; Radiation Hardening: No; REACH SVHC: Yes; Schedule B: 8533210045, 8533210045|8533210045, 8533210045|8533210045|8533210045, 8533210045|8533210045|8533210045|8533210045; Temperature Coefficient: 200ppm/°C; Termination: SMD/SMT; Tolerance: 5%; Weight: 2.012816mg; Width: 850µm; Working Voltage: 75V; ComponentLink1URL: https://datasheet.octopart.com:443/CRCW060347K0JNEA-Vishay-datasheet-175423584.pdf?src-supplier=IHS; ComponentLink1Description: https://datasheet.octopart.com:443/CRCW060347K0JNEA-Vishay-datasheet-175423584.pdf?src-supplier=IHS; ComponentLink2URL: https://datasheet.octopart.com:443/CRCW060347K0JNEA-Vishay-datasheet-83961561.pdf?src-supplier=Newark; ComponentLink2Description: https://datasheet.octopart.com:443/CRCW060347K0JNEA-Vishay-datasheet-83961561.pdf?src-supplier=Newark; ComponentLink3URL: https://datasheet.octopart.com:443/CRCW060347K0JNEA-Vishay-datasheet-62317937.pdf?src-supplier=Newark; ComponentLink3Description: https://datasheet.octopart.com:443/CRCW060347K0JNEA-Vishay-datasheet-62317937.pdf?src-supplier=Newark; ComponentLink4URL: https://datasheet.octopart.com:443/CRCW060347K0JNEA-Vishay-datasheet-33013972.pdf?src-supplier=Newark; ComponentLink4Description: https://datasheet.octopart.com:443/CRCW060347K0JNEA-Vishay-datasheet-33013972.pdf?src-supplier=Newark; ComponentLink5URL: https://datasheet.octopart.com:443/CRCW060347K0JNEA-Vishay-datasheet-21226360.pdf?src-supplier=Newark; ComponentLink5Description: https://datasheet.octopart.com:443/CRCW060347K0JNEA-Vishay-datasheet-21226360.pdf?src-supplier=Newark; ComponentLink6URL: https://datasheet.octopart.com:443/CRCW060347K0JNEA-Vishay-datasheet-24897302.pdf?src-supplier=element14+APAC; ComponentLink6Description: https://datasheet.octopart.com:443/CRCW060347K0JNEA-Vishay-datasheet-24897302.pdf?src-supplier=element14+APAC; ComponentLink7URL: https://datasheet.octopart.com:443/CRCW060347K0JNEA-Vishay-datasheet-66077789.pdf?src-supplier=element14+APAC; ComponentLink7Description: https://datasheet.octopart.com:443/CRCW060347K0JNEA-Vishay-datasheet-66077789.pdf?src-supplier=element14+APAC; ComponentLink8URL: https://datasheet.octopart.com:443/CRCW060347K0JNEA-Vishay-datasheet-10882403.pdf?src-supplier=element14+APAC; ComponentLink8Description: https://datasheet.octopart.com:443/CRCW060347K0JNEA-Vishay-datasheet-10882403.pdf?src-supplier=element14+APAC; ComponentLink9URL: https://datasheet.octopart.com:443/CRCW060347K0JNEA-Vishay-datasheet-5300368.pdf?src-supplier=Future+Electronics; ComponentLink9Description: https://datasheet.octopart.com:443/CRCW060347K0JNEA-Vishay-datasheet-5300368.pdf?src-supplier=Future+Electronics; ComponentLink10URL: https://datasheet.octopart.com:443/CRCW060347K0JNEA-Vishay-datasheet-62316122.pdf?src-supplier=Future+Electronics; ComponentLink10Description: https://datasheet.octopart.com:443/CRCW060347K0JNEA-Vishay-datasheet-62316122.pdf?src-supplier=Future+Electronics; ComponentLink11URL: https://datasheet.octopart.com:443/CRCW060347K0JNEA-Vishay-Dale-datasheet-47688880.pdf?src-supplier=RS+(Formerly+Allied+Electronics); ComponentLink11Description: https://datasheet.octopart.com:443/CRCW060347K0JNEA-Vishay-Dale-datasheet-47688880.pdf?src-supplier=RS+(Formerly+Allied+Electronics); ComponentLink12URL: https://datasheet.octopart.com:443/CRCW060347K0JNEA-Vishay-datasheet-12001583.pdf?src-supplier=RS+(Formerly+Allied+Electronics); ComponentLink12Description: https://datasheet.octopart.com:443/CRCW060347K0JNEA-Vishay-datasheet-12001583.pdf?src-supplier=RS+(Formerly+Allied+Electronics); ComponentLink13URL: https://datasheet.octopart.com:443/CRCW060347K0JNEA-Vishay-datasheet-5306405.pdf?src-supplier=RS+(Formerly+Allied+Electronics); ComponentLink13Description: https://datasheet.octopart.com:443/CRCW060347K0JNEA-Vishay-datasheet-5306405.pdf?src-supplier=RS+(Formerly+Allied+Electronics); ComponentLink14URL: https://datasheet.octopart.com:443/CRCW060347K0JNEA-Vishay-datasheet-17834126.pdf?src-supplier=TME; ComponentLink14Description: https://datasheet.octopart.com:443/CRCW060347K0JNEA-Vishay-datasheet-17834126.pdf?src-supplier=TME; ComponentLink15URL: https://datasheet.octopart.com:443/CRCW060347K0JNEA-Vishay-datasheet-11540273.pdf?src-supplier=Arrow+Electronics; ComponentLink15Description: https://datasheet.octopart.com:443/CRCW060347K0JNEA-Vishay-datasheet-11540273.pdf?src-supplier=Arrow+Electronics; ComponentLink16URL: https://datasheet.octopart.com:443/CRCW060347K0JNEA-Vishay-datasheet-8445837.pdf?src-supplier=element14; ComponentLink16Description: https://datasheet.octopart.com:443/CRCW060347K0JNEA-Vishay-datasheet-8445837.pdf?src-supplier=element14; ComponentLink17URL: https://datasheet.octopart.com:443/CRCW060347K0JNEA-Vishay-datasheet-5377433.pdf?src-supplier=Garrett; ComponentLink17Description: https://datasheet.octopart.com:443/CRCW060347K0JNEA-Vishay-datasheet-5377433.pdf?src-supplier=Garrett; ComponentLink18URL: https://datasheet.octopart.com:443/CRCW060347K0JNEA-Vishay-datasheet-148188.pdf?src-supplier=Garrett; ComponentLink18Description: https://datasheet.octopart.com:443/CRCW060347K0JNEA-Vishay-datasheet-148188.pdf?src-supplier=Garrett; ComponentLink19URL: https://datasheet.octopart.com:443/CRCW060347K0JNEA-Vishay-datasheet-30224.pdf?src-supplier=Garrett; ComponentLink19Description: https://datasheet.octopart.com:443/CRCW060347K0JNEA-Vishay-datasheet-30224.pdf?src-supplier=Garrett; ComponentLink20URL: http://sigma.octopart.com:80/rohs_statement/Vishay-company-15.pdf?src-supplier=Compliance+Statements; ComponentLink20Description: http://sigma.octopart.com:80/rohs_statement/Vishay-company-15.pdf?src-supplier=Compliance+Statements
footprint RES0603 - CRCW060347K0JNEA (Chip Resistor, 2-Leads, Body 1,63x0,85mm, IPC Medium Density CRCW06030000Z0EA)
pins: 1, 2